# Altium schematic symbol library conn_header_1.27mm_st_smd_edge.SchLib: 2 symbols
Pins are listed as number, name and electrical type; pins without a type are passive.

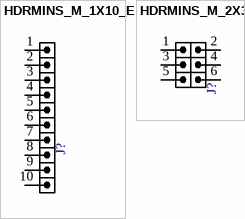
[diagram p0: symbols HDRMINS_M_1X10_E to HDRMINS_M_2X3]

## HDRMINS_M_1X10_E
designator J?, comment HDRMINI_10  (value not drawn)
CONN, HEADER, Male, pitch: 1.27mm; VALUE: HDRMINI_10
footprint HDRMINS_M_1X10_E (mini header (50mil pitch))
pins: 1, 2, 3, 4, 5, 6, 7, 8, 9, 10

## HDRMINS_M_2X3
designator J?, comment HDRMINI_2X3  (value not drawn)
CONN, HEADER, Male, pitch: 1.27mm; VALUE: HDRMINI_2X3
footprint HDRMINS_M_2X3_E (mini header (50mil pitch))
pins: 1, 2, 3, 4, 5, 6